# Altium footprint library Nexperia_BC847AW.PcbLib: 1 footprints
Each footprint in its own frame and in the unit in brackets; x right, y up, seen from the top. Pads: shape width x height; smd on the part's side, far side on the other; paste and mask are expansions set on the pad; w line width, h text height; cw(c..) or ccw(c..) is an arc to the next point about the centre after c.
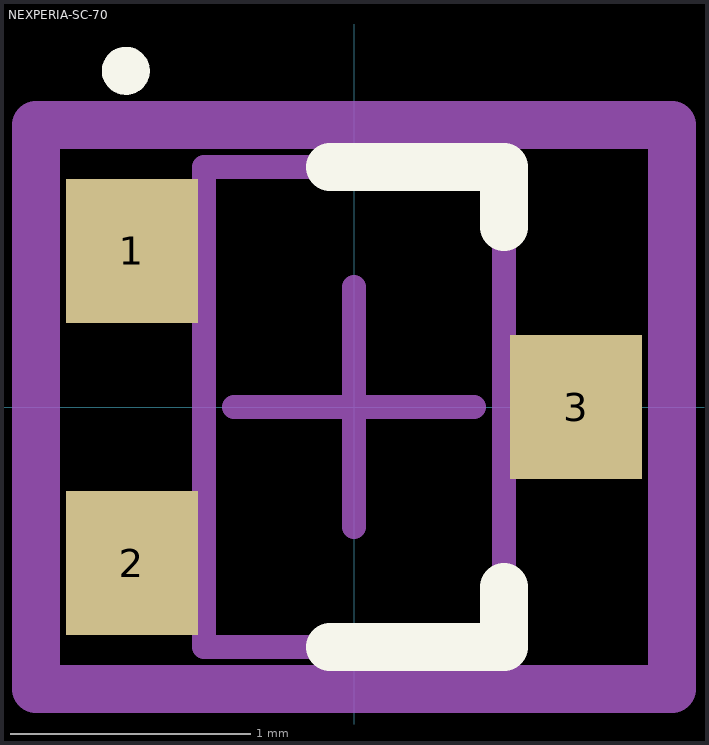
[diagram p0: the footprint, top view; thin cyan lines are the x and y axes]

## NEXPERIA-SC-70 [mm] "SC-70 SOT-323"
height 1
pads (3):
  rect 0.55x0.6 smd: 1(-0.925,0.65) 2(-0.925,-0.65) 3(0.925,0)
Top Overlay:
  circle w0.1: c-0.95,1.4 r0.05
  lines w0.2: -0.1,-1 0.625,-1 0.625,-0.75 ; -0.1,1 0.625,1 0.625,0.75
Mechanical 10 (Mech10):
  lines w0.2: -1.325,-1.175 1.325,-1.175 1.325,1.175 -1.325,1.175 -1.325,-1.175
  text "'.Designator'" at 0,0 h0.8
Mechanical 13:
  lines w0.1: -0.625,-1 0.625,-1 0.625,1 -0.625,1 -0.625,-1
Mechanical 15:
  lines w0.05: -1.325,-1.175 1.325,-1.175 1.325,-0.55 1.325,-0.275 1.325,0.275 1.325,0.55 1.325,1.175 -1.325,1.175 -1.325,-1.175
  lines w0.1: -0.5,0 0.5,0 ; 0,-0.5 0,0.5
3D body "NX3008NBKW,115--3DModel-STEP-56544.STEP": height 1.1, standoff 0, extent -1.05,-1 1.05,1